# EAGLE library part MCP604 (library Sedna Components)
The MCP604 <https://www.mouser.com/datasheet/2/268/21314f-29012.pdf> is a quad-input Op Amp.
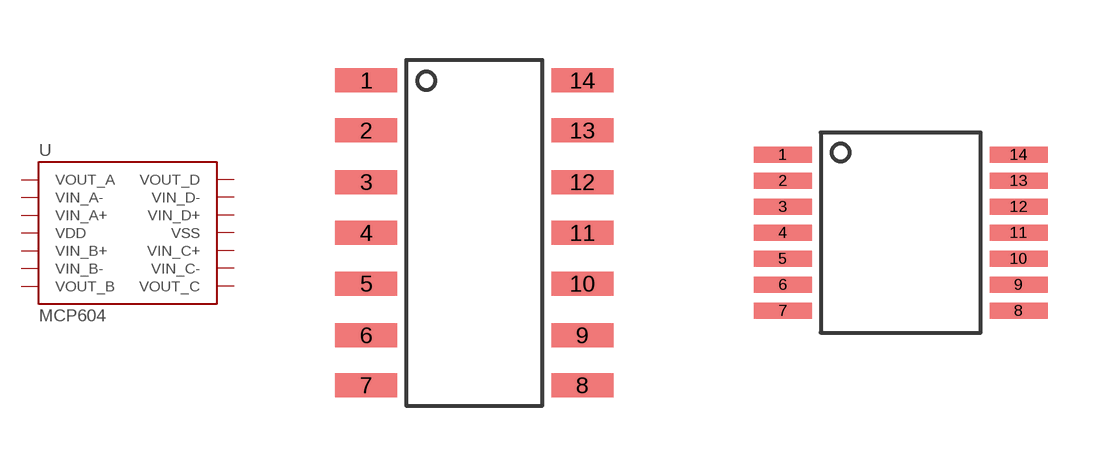
[diagram p3: symbol with the pads of MICROCHIP_SOIC-14_SL; footprints MICROCHIP_SOIC-14_SL, MICROCHIP_TSSOP-14_ST]

Designator prefix U

## MCP604SL  [MICROCHIP_SOIC-14_SL]
1  VOUT_A  out
2  VIN_A-  in
3  VIN_A+  in
4  VDD  pwr
5  VIN_B+  in
6  VIN_B-  in
7  VOUT_B  out
8  VOUT_C  out
9  VIN_C-  in
10  VIN_C+  in
11  VSS  pwr
12  VIN_D+  in
13  VIN_D-  in
14  VOUT_D  out

## MCP604ST  [MICROCHIP_TSSOP-14_ST]
Pads as for MICROCHIP_SOIC-14_SL

## Footprint MICROCHIP_SOIC-14_SL (pad centres in mm)
This is the recommended footprint for Microchip SOIC-14 (SL) <https://ww1.microchip.com/downloads/en/DeviceDoc/14L%20SOIC%203_90%20mm%20(SL)%20C04-00065d.pdf> components.
smd 1.55 x 0.6: 1 -2.7,3.81; 2 -2.7,2.56; 3 -2.7,1.27; 4 -2.7,0; 5 -2.7,-1.27; 6 -2.7,-2.56; 7 -2.7,-3.81; 8 2.7,-3.81; 9 2.7,-2.56; 10 2.7,-1.27; 11 2.7,0; 12 2.7,1.27; 13 2.7,2.56; 14 2.7,3.81

## Footprint MICROCHIP_TSSOP-14_ST (pad centres in mm)
This is the recommended footprint for Microchip TSSOP-14 (ST) <https://ww1.microchip.com/downloads/en/DeviceDoc/14L_TSSOP_4_4mm_ST_C04-00087d.pdf> components.
smd 1.45 x 0.4: 1 -2.95,1.95; 2 -2.95,1.3; 3 -2.95,0.65; 4 -2.95,0; 5 -2.95,-0.65; 6 -2.95,-1.3; 7 -2.95,-1.95; 8 2.95,-1.95; 9 2.95,-1.3; 10 2.95,-0.65; 11 2.95,0; 12 2.95,0.65; 13 2.95,1.3; 14 2.95,1.95